# Altium footprint library multiplexorparts.PcbLib: 20 footprints (part 2 of 2)
Each footprint in its own frame and in the unit in brackets; x right, y up, seen from the top. Pads: shape width x height; smd on the part's side, far side on the other; paste and mask are expansions set on the pad; w line width, h text height; cw(c..) or ccw(c..) is an arc to the next point about the centre after c.
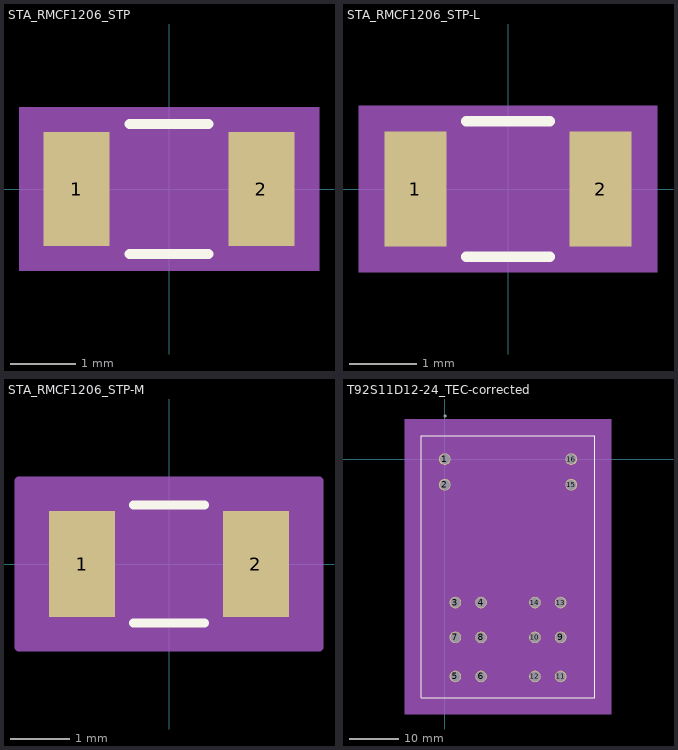
[diagram p1: the footprints below, top view; thin cyan lines are the x and y axes]

## STA_RMCF1206_STP [mil]
pads (2):
  rect 40x69 smd paste+0 mask+0: 1(-56,0) 2(56,0)
Top Overlay:
  lines w6: -23.89,-39.5 23.89,-39.5 ; -23.89,39.5 23.89,39.5
Mechanical 5:
  region: 91,-49.5 -91,-49.5 -91,49.5 91,49.5
Mechanical 13:
  lines w1: -68,-34.5 -68,34.5 ; -68,-34.5 -36,-34.5 -36,34.5 -68,34.5 ; -68,-34.5 68,-34.5 ; -68,-34.5 -68,34.5 ; -68,34.5 68,34.5 ; 68,-34.5 36,-34.5 36,34.5 68,34.5 ; 68,-34.5 68,34.5 ; 68,-34.5 68,34.5
Mechanical 15:
  region: 86,-44.5 -86,-44.5 -86,44.5 86,44.5
  lines w6: -86,-44.5 -86,44.5 86,44.5 86,-44.5 -86,-44.5
3D body "STA_RMCF1206_STP.step": height 27.99, standoff 0, extent -67.99,-34.49 67.99,34.49

## STA_RMCF1206_STP-L [mil]
pads (2):
  rect 36x67 smd paste+0 mask+0: 1(-54,0) 2(54,0)
Top Overlay:
  lines w6: -24.35,-39.5 24.35,-39.5 ; -24.35,39.5 24.35,39.5
Mechanical 5:
  region: 87,-48.5 -87,-48.5 -87,48.5 87,48.5
Mechanical 13:
  lines w1: -68,-34.5 -68,34.5 ; -68,-34.5 68,-34.5 ; -68,-34.5 -36,-34.5 -36,34.5 -68,34.5 ; -68,-34.5 -68,34.5 ; -68,34.5 68,34.5 ; 68,-34.5 68,34.5 ; 68,-34.5 68,34.5 ; 68,-34.5 36,-34.5 36,34.5 68,34.5
Mechanical 15:
  region: 76,-37.5 -76,-37.5 -76,37.5 76,37.5
  lines w6: -76,-37.5 76,-37.5 76,37.5 -76,37.5 -76,-37.5
3D body "STA_RMCF1206_STP.step": height 27.99, standoff 0, extent -67.99,-34.49 67.99,34.49

## STA_RMCF1206_STP-M [mil]
pads (2):
  rect 44x71 smd paste+0 mask+0: 1(-58,0) 2(58,0)
Top Overlay:
  lines w6: -23.53,-39.5 23.53,-39.5 ; -23.53,39.5 23.53,39.5
Mechanical 5:
  region: 95,-50.5 -95,-50.5 -95,50.5 95,50.5
Mechanical 13:
  lines w1: -68,-34.5 -68,34.5 ; -68,-34.5 -36,-34.5 -36,34.5 -68,34.5 ; -68,-34.5 68,-34.5 ; -68,-34.5 -68,34.5 ; -68,34.5 68,34.5 ; 68,-34.5 36,-34.5 36,34.5 68,34.5 ; 68,-34.5 68,34.5 ; 68,-34.5 68,34.5
Mechanical 15:
  region: 100,-55.5 -100,-55.5 -100,55.5 100,55.5
  lines w6: -100,-55.5 -100,55.5 100,55.5 100,-55.5 -100,-55.5
3D body "STA_RMCF1206_STP.step": height 27.99, standoff 0, extent -67.99,-34.49 67.99,34.49

## T92S11D12-24_TEC-corrected [mil]
pads (16):
  round 92 hole 79: 1(0,0) 2(0,-203) 3(83.58,-1134.5) 4(286.58,-1134.5) 5(83.58,-1719.5) 6(286.58,-1719.5) 7(83.58,-1410.5) 8(286.58,-1410.5) 9(916.42,-1410.5) 10(713.42,-1410.5) 11(916.42,-1719.5) 12(713.42,-1719.5) 13(916.42,-1134.5) 14(713.42,-1134.5) 15(1000,-203) 16(1000,0)
Top Overlay:
  lines w6: -185,-1886.5 -185,183.5 1185,183.5 1185,-1886.5 -185,-1886.5
  text "*" at -12.5,307 h50
Mechanical 5:
  region: 1315,-2016.5 -315,-2016.5 -315,313.5 1315,313.5
Mechanical 13:
  lines w0: 488,178.5 ccw(c500,178.5) 512,178.5
  lines w1: -180,-1881.5 -180,178.5 1180,178.5 1180,-1881.5 -180,-1881.5
  text "*" at -12.5,-50 h50
Mechanical 15:
  region: 1180,-1881.5 -180,-1881.5 -180,178.5 1180,178.5
  region: 1190,-1891.5 -190,-1891.5 -190,188.5 1190,188.5
  lines w6: -190,-1891.5 1190,-1891.5 1190,188.5 -190,188.5 -190,-1891.5
3D body: height 10, standoff 0, extent 0,0 10,10